# EAGLE library part SN74HC574N (library SN74HC574N)
OCTAL EDGE-TRIGGERED D-TYPE FLIP-FLOPS WITH 3-STATE OUTPUTS Source: Datasheet <http://componentsearchengine.com/Datasheets/1/SN74HC574N.pdf>
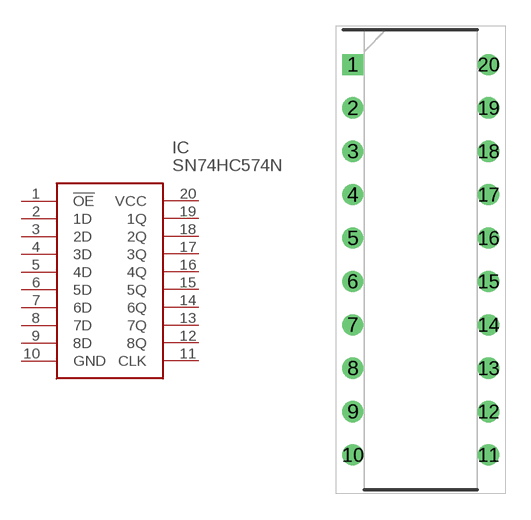
[diagram p0: symbol with the pads of DIP794W53P254L2540H508Q20N; footprint DIP794W53P254L2540H508Q20N]

Designator prefix IC

## SN74HC574N (Description: OCTAL EDGE-TRIGGERED D-TYPE FLIP-FLOPS WITH 3-STATE OUTPUTS; Height: 5.08mm; Manufacturer_Name: Texas Instruments; Manufacturer_Part_Number: SN74HC574N; Mouser_Part_Number: 595-SN74HC574N; Mouser_Price-Stock: https://www.mouser.co.uk/ProductDetail/Texas-Instruments/SN74HC574N?qs=7KMwW2o1%252BmTGh61cX6rAtQ%3D%3D)  [DIP794W53P254L2540H508Q20N]
1  !OE
2  1D
3  2D
4  3D
5  4D
6  5D
7  6D
8  7D
9  8D
10  GND
11  CLK
12  8Q
13  7Q
14  6Q
15  5Q
16  4Q
17  3Q
18  2Q
19  1Q
20  VCC

## Footprint DIP794W53P254L2540H508Q20N (pad centres in mm)
PDIP-N20
drill 0.73 pad 1.13 square: 1 -3.97,11.43
drill 0.73 pad 1.13: 2 -3.97,8.89; 3 -3.97,6.35; 4 -3.97,3.81; 5 -3.97,1.27; 6 -3.97,-1.27; 7 -3.97,-3.81; 8 -3.97,-6.35; 9 -3.97,-8.89; 10 -3.97,-11.43; 11 3.97,-11.43; 12 3.97,-8.89; 13 3.97,-6.35; 14 3.97,-3.81; 15 3.97,-1.27; 16 3.97,1.27; 17 3.97,3.81; 18 3.97,6.35; 19 3.97,8.89; 20 3.97,11.43